# EAGLE library part TMC211-SA (library trinamic)
TRINAMIC Microstepping stepper motor controller/driver with LIN interface Information given in this library is believed to be accurate and reliable. However no warranty is given for its correctness. Datasheet for TMC211 <http://www.trinamic.com/tmc/media/Downloads/integrated_circuits/Tmc211/tmc211_datasheet_v104.pdf> Description Microstepping stepper motor controller/driver with LIN interface The TMC211 is a combined micro-stepping stepper motor motion controller and driver with RAM and OTP memory. The RAM or OTP memory is used to store motor parameters and configuration settings. The TMC211 allows up to four bit of microstepping and a coil current of up to 800 mA. After initialization it performs all time critical tasks autonomously based on target positions and velocity parameters. The TMC211 provides two different interfaces: LIN and a two wire serial interface. Communications to a host takes place either via LIN interface or via two wire serial interface. Together with an inexpensive microcontroller the TMC211 forms a complete motion control system. Specifications Motor driver Controls one stepper motor with four bit microstepping Programmable Coil current up to 800 mA Supply voltage range operating range 8V ... 29V Fixed frequency PWM current control with automatic selection of fast and slow decay mode Full step frequencies up to 1 kHz High temperature, open circuit, short, over-current and under-voltage diagnostics Motion controller Internal 16-bit wide position counter Configurable speed and acceleration settings Build-in ramp generator for autonomous positioning and speed control On-the-fly alteration of target position reference switch input available for read out LIN interface Physical and Data-Link Layers conform to LIN rev. 1.2 Field-programmable node addresses (128) Dynamically allocated identifiers Diagnostics and status information as well as motion parameters accessable LIN bus short-circuit protection to supply and ground Lost LIN safe operation
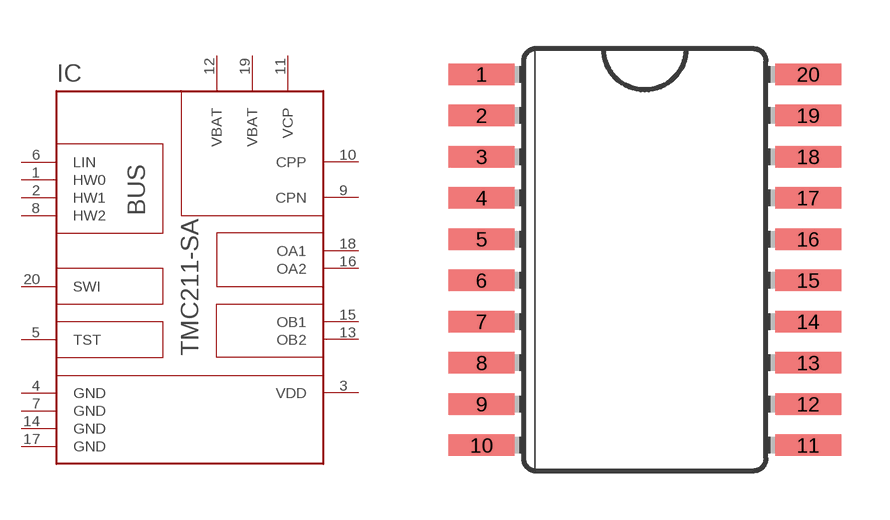
[diagram p10: symbol with the pads of SOIC20; footprint SOIC20]

Designator prefix IC

## TMC211-SA  [SOIC20]
1  HW0  in
2  HW1  in
3  VDD  in
4  GND  in
5  TST  in
6  LIN
7  GND  in
8  HW2  in
9  CPN  in
10  CPP  in
11  VCP  in
12  VBAT  in
13  OB2  out
14  GND  in
15  OB1  out
16  OA2  out
17  GND  in
18  OA1  out
19  VBAT  in
20  SWI  in

## Footprint SOIC20 (pad centres in mm)
smd 2.032 x 0.66: 1 -5.029,5.715; 2 -5.029,4.445; 3 -5.029,3.175; 4 -5.029,1.905; 5 -5.029,0.635; 6 -5.029,-0.635; 7 -5.029,-1.905; 8 -5.029,-3.175; 9 -5.029,-4.445; 10 -5.029,-5.715; 11 5.029,-5.715; 12 5.029,-4.445; 13 5.029,-3.175; 14 5.029,-1.905; 15 5.029,-0.635; 16 5.029,0.635; 17 5.029,1.905; 18 5.029,3.175; 19 5.029,4.445; 20 5.029,5.715